# EAGLE library part MP6500 (library MP6500)
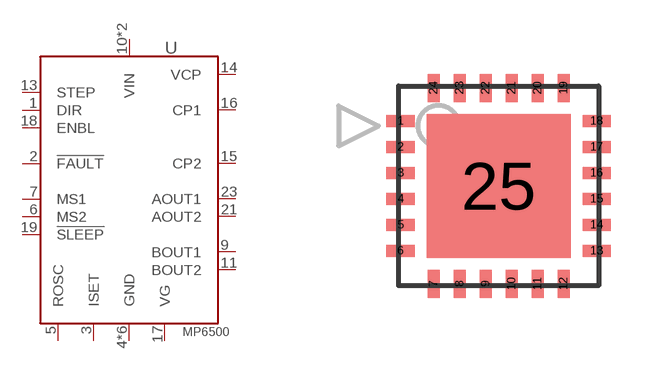
[diagram p0: symbol with the pads of QFN-24-5X5-0.65; footprint QFN-24-5X5-0.65]

Designator prefix U

## MP6500GU (MARK: MP6500; MF: Monolithic Power Systems; MPN: MP6500GU-Z), MP6500LGU (MARK: MP6500L; MF: Monolithic Power Systems; MPN: MP6500LGU-Z)  [QFN-24-5X5-0.65]
1  DIR  in
2  !FAULT  out
3  ISET
4  GND
5  ROSC
6  MS2  in
7  MS1  in
8  GND
9  BOUT1  out
10  VIN
11  BOUT2  out
12  GND
13  STEP  in
14  VCP
15  CP2
16  CP1
17  VG
18  ENBL  in
19  !SLEEP  in
20  GND
21  AOUT2  out
22  VIN
23  AOUT1  out
24  GND
25  GND

## Footprint QFN-24-5X5-0.65 (pad centres in mm)
smd 0.7 x 0.3: 1 -2.45,1.625; 2 -2.45,0.975; 3 -2.45,0.325; 4 -2.45,-0.325; 5 -2.45,-0.975; 6 -2.45,-1.625; 13 2.45,-1.625; 14 2.45,-0.975; 15 2.45,-0.325; 16 2.45,0.325; 17 2.45,0.975; 18 2.45,1.625
smd 0.3 x 0.7: 7 -1.625,-2.45; 8 -0.975,-2.45; 9 -0.325,-2.45; 10 0.325,-2.45; 11 0.975,-2.45; 12 1.625,-2.45; 19 1.625,2.45; 20 0.975,2.45; 21 0.325,2.45; 22 -0.325,2.45; 23 -0.975,2.45; 24 -1.625,2.45
smd 3.6 x 3.6: 25 0,0